# EAGLE library part ADS1015 (library matts)
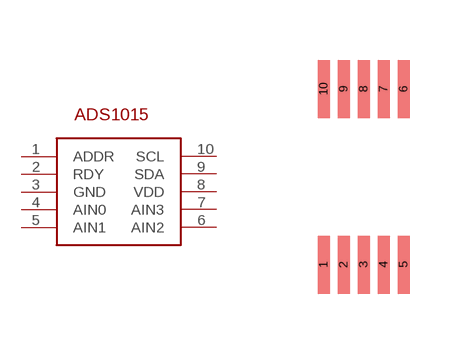
[diagram p1: symbol with the pads of VSSOP-10; footprint VSSOP-10]

Designator prefix -

## ADS1015  [VSSOP-10]
1  ADDR
2  RDY
3  GND
4  AIN0
5  AIN1
6  AIN2
7  AIN3
8  VDD
9  SDA
10  SCL

## Footprint VSSOP-10 (pad centres in mm)
smd 0.3 x 1.45: 1 -1,-2.2; 2 -0.5,-2.2; 3 0,-2.2; 4 0.5,-2.2; 5 1,-2.2; 6 1,2.2; 7 0.5,2.2; 8 0,2.2; 9 -0.5,2.2; 10 -1,2.2